# EAGLE library part BQ2947 (library BB8)
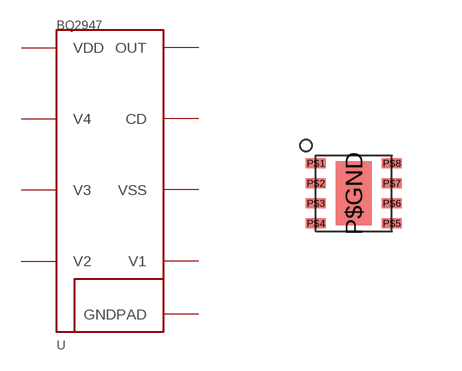
[diagram p12: symbol with the pads of WSON-8; footprint WSON-8]

Designator prefix U

## BQ2947  [WSON-8]
P$1  VDD
P$2  V4
P$3  V3
P$4  V2
P$5  V1
P$6  VSS
P$7  CD
P$8  OUT
P$GND  GNDPAD

## Footprint WSON-8 (pad centres in mm)
smd 0.5 x 0.25: P$1 -0.95,0.75; P$2 -0.95,0.25; P$3 -0.95,-0.25; P$4 -0.95,-0.75; P$5 0.95,-0.75; P$6 0.95,-0.25; P$7 0.95,0.25; P$8 0.95,0.75
smd 0.9 x 1.6: P$GND 0,0